# Altium schematic symbol library ADC084S021CIMM.SchLib: 1 symbol
Pins are listed as number, name and electrical type; pins without a type are passive.

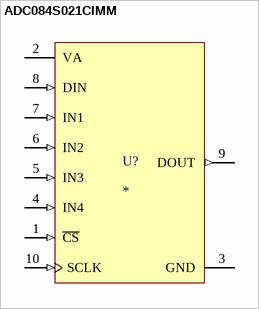
[diagram p0: symbol ADC084S021CIMM]

## ADC084S021CIMM
designator U?
MP: ADC084S021CIMM/NOPB; Package: None; Price: None; Value: *; Availability: Unavailable
footprint SOP50P490X110-10N
pins: 1 ~{CS} (in), 2 VA (power), 3 GND (power), 4 IN4 (in), 5 IN3 (in), 6 IN2 (in), 7 IN1 (in), 8 DIN (in), 9 DOUT (out), 10 SCLK (in)